# Altium footprint library 8-SOP.PcbLib: 1 footprints
Each footprint in its own frame and in the unit in brackets; x right, y up, seen from the top. Pads: shape width x height; smd on the part's side, far side on the other; paste and mask are expansions set on the pad; w line width, h text height; cw(c..) or ccw(c..) is an arc to the next point about the centre after c.
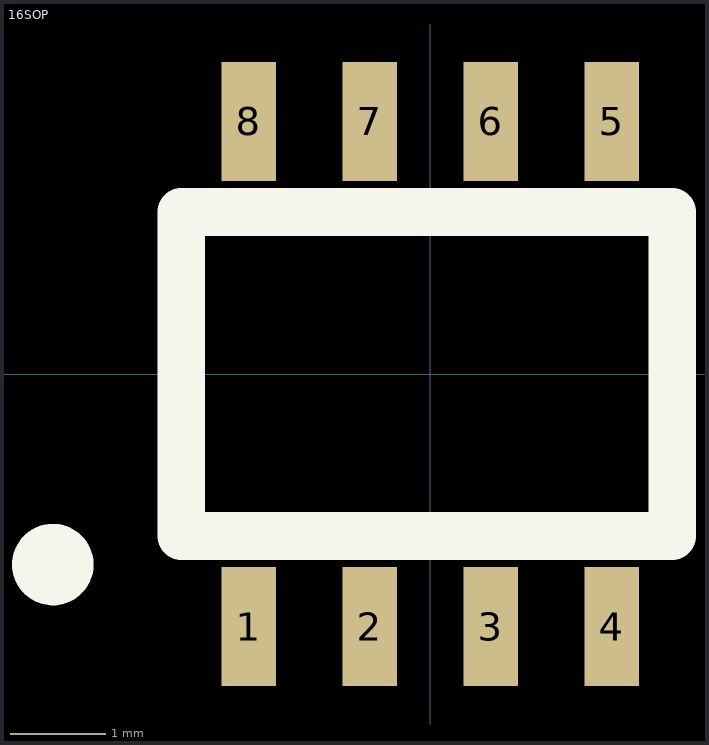
[diagram p0: the footprint, top view; thin cyan lines are the x and y axes]

## 16SOP [mm]
pads (8):
  rect 0.57x1.25 smd: 1(-1.905,-2.65) 2(-0.635,-2.65) 3(0.635,-2.65) 4(1.905,-2.65) 5(1.905,2.65) 6(0.635,2.65) 7(-0.635,2.65) 8(-1.905,2.65)
Top Overlay:
  circle w0.5: c-3.96,-2 r0.178
  lines w0.5: -2.61,-1.7 -2.61,1.7 2.54,1.7 2.54,-1.7 -2.61,-1.7
3D body "SO8_DIO.step": height 1.7, standoff 0, extent -2.502,-3.099 2.502,3.099